# Altium footprint library DFN2626-10.PcbLib: 1 footprints
Each footprint in its own frame and in the unit in brackets; x right, y up, seen from the top. Pads: shape width x height; smd on the part's side, far side on the other; paste and mask are expansions set on the pad; w line width, h text height; cw(c..) or ccw(c..) is an arc to the next point about the centre after c.
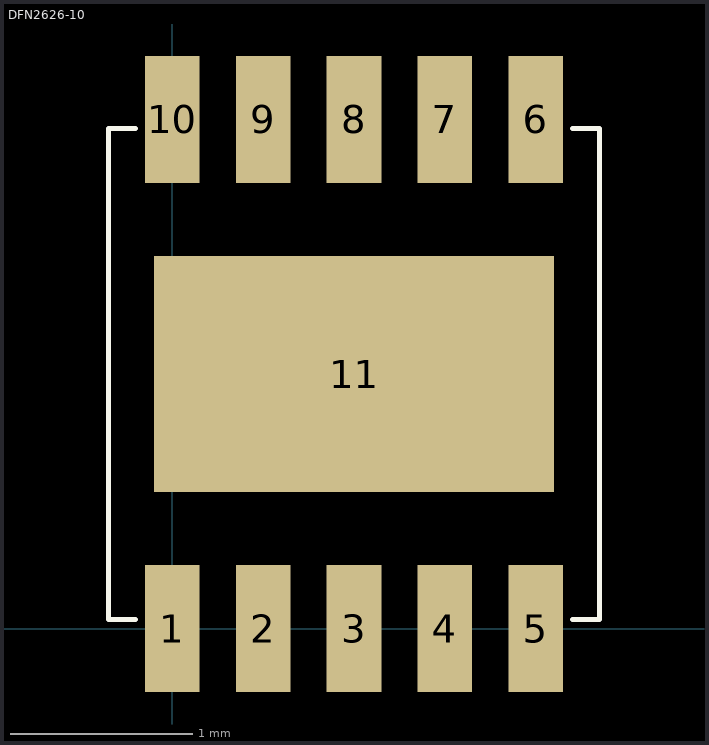
[diagram p0: the footprint, top view; thin cyan lines are the x and y axes]

## DFN2626-10 [mm] "DFN14 w/ powerpad for LT3032"
height 2
pads (11):
  rect 0.3x0.7 smd: 1(0,0) 2(0.5,0) 3(1,0) 4(1.5,0) 5(2,0) 6(2,2.8) 7(1.5,2.8) 8(1,2.8) 9(0.5,2.8) 10(0,2.8)
  rect 2.2x1.3 smd: 11(1,1.4)
TopOverlay:
  lines w0.025: -0.2,0.05 -0.35,0.05 -0.35,2.75 -0.2,2.75 ; 2.2,0.05 2.35,0.05 2.35,2.75 2.2,2.75
  text "." at -0.125,-0.875 h1.25